# Altium schematic symbol library IRM-30-12.Schlib: 1 symbol
Pins are listed as number, name and electrical type; pins without a type are passive.

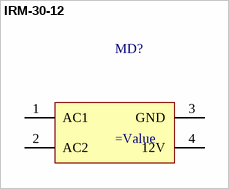
[diagram p0: symbol IRM-30-12]

## IRM-30-12
designator MD?
=Description
pins: 1 AC1 (power), 2 AC2 (power), 3 GND (power), 4 12V (power)